# EAGLE library part 1_X_12_HEADER_GENERIC_.1INCH (library 3D_MIG_Controller)
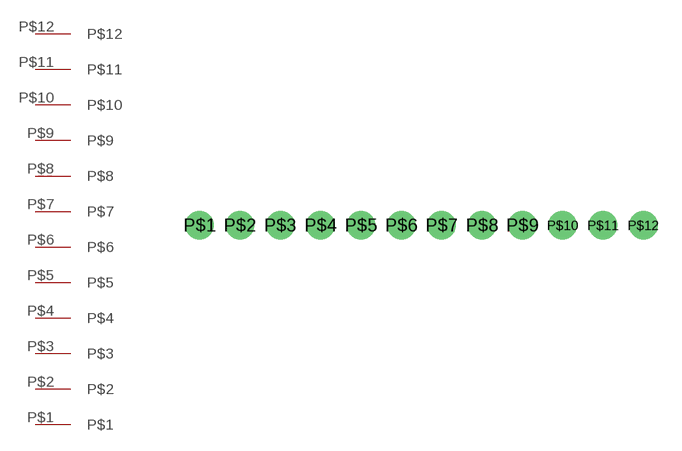
[diagram p40: symbol with the pads of HEADER_1_X_12_.1_INCH; footprint HEADER_1_X_12_.1_INCH]

Designator prefix -

## 1_X_12_HEADER_GENERIC_.1INCH  [HEADER_1_X_12_.1_INCH]
P$1  P$1
P$2  P$2
P$3  P$3
P$4  P$4
P$5  P$5
P$6  P$6
P$7  P$7
P$8  P$8
P$9  P$9
P$10  P$10
P$11  P$11
P$12  P$12

## Footprint HEADER_1_X_12_.1_INCH (pad centres in mm)
drill 1.2 pad 1.6: P$1 -29.21,-1.27; P$2 -26.67,-1.27; P$3 -24.13,-1.27; P$4 -21.59,-1.27; P$5 -19.05,-1.27; P$6 -16.51,-1.27; P$7 -13.97,-1.27; P$8 -11.43,-1.27; P$9 -8.89,-1.27; P$10 -6.35,-1.27; P$11 -3.81,-1.27; P$12 -1.27,-1.27